# EAGLE library part S25FL127SABMFI103 (library esp32s2mini)
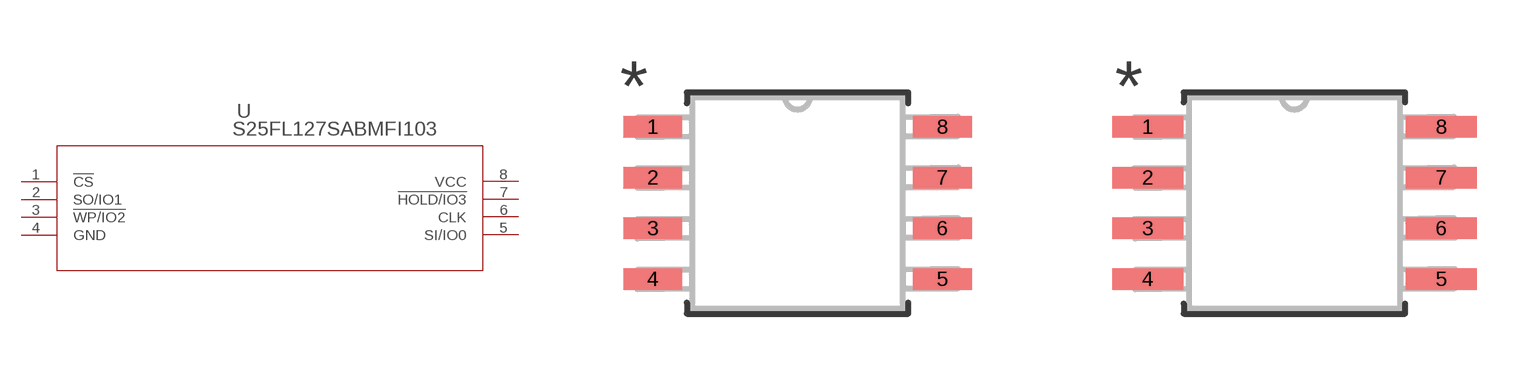
[diagram p1: symbol with the pads of SOC008_SPA; footprints SOC008_SPA, SOC008_SPA-M]

Designator prefix U

## S25FL127SABMFI103 (BUILT_BY: EMA_UL_Team; MANUFACTURER_PART_NUMBER: S25FL127SABMFI103; SOURCELIBRARY: Spansion_2012-01-01_S25_FL-S; VENDOR: Spansion)  [SOC008_SPA]
1  !CS  in
2  SO/IO1
3  !WP/IO2
4  GND  pwr
5  SI/IO0
6  CLK  in
7  !HOLD/IO3
8  VCC  pwr

## S25FL127SABMFI103SOC008_SPA-M (BUILT_BY: EMA_UL_Team; MANUFACTURER_PART_NUMBER: S25FL127SABMFI103; SOURCELIBRARY: Spansion_2012-01-01_S25_FL-S; VENDOR: Spansion)  [SOC008_SPA-M]
Pads as for SOC008_SPA

## S25FL127SABMFI103SOC008_SPA-L (BUILT_BY: EMA_UL_Team; MANUFACTURER_PART_NUMBER: S25FL127SABMFI103; SOURCELIBRARY: Spansion_2012-01-01_S25_FL-S; VENDOR: Spansion)  [SOC008_SPA-L]
Pads as for SOC008_SPA

## Footprint SOC008_SPA (pad centres in mm)
smd 1.473 x 0.533: 1 -3.619,1.905; 2 -3.619,0.635; 3 -3.619,-0.635; 4 -3.619,-1.905; 5 3.619,-1.905; 6 3.619,-0.635; 7 3.619,0.635; 8 3.619,1.905

## Footprint SOC008_SPA-M (pad centres in mm)
smd 1.778 x 0.533: 1 -3.67,1.905; 2 -3.67,0.635; 3 -3.67,-0.635; 4 -3.67,-1.905; 5 3.67,-1.905; 6 3.67,-0.635; 7 3.67,0.635; 8 3.67,1.905

## Footprint SOC008_SPA-L (pad centres in mm)
smd 1.168 x 0.483: 1 -3.569,1.905; 2 -3.569,0.635; 3 -3.569,-0.635; 4 -3.569,-1.905; 5 3.569,-1.905; 6 3.569,-0.635; 7 3.569,0.635; 8 3.569,1.905